# Altium schematic symbol library SamacSys.SchLib: 218 symbols (part 3 of 3)
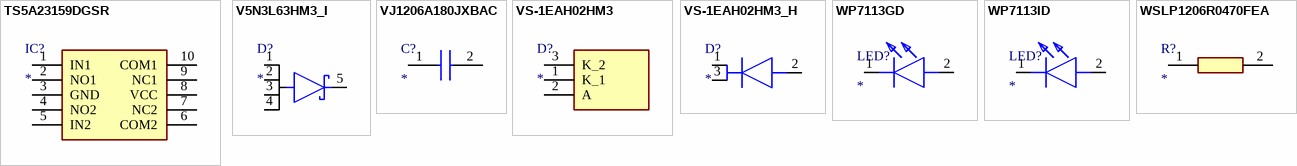
[diagram p8: symbols TS5A23159DGSR to WSLP1206R0470FEA]

## WP7113ID
designator LED?
LED; Manufacturer_Name: Kingbright; Manufacturer_Part_Number: WP7113ID; Datasheet Link: https://www.kingbrightusa.com/images/catalog/SPEC/WP7113ID.pdf; Height: 9.85mm; Mouser Part Number: 604-WP7113ID; Mouser Price/Stock: https://www.mouser.co.uk/ProductDetail/Kingbright/WP7113ID?qs=hyavMCx%252BcmDJhCThgY7pfQ%3D%3D; Arrow Part Number: WP7113ID; Arrow Price/Stock: https://www.arrow.com/en/products/wp7113id/kingbright
footprint WP7113ID
pins: 1 K, 2 A

## WSLP1206R0470FEA
designator R?
Resistor; Manufacturer_Name: Vishay; Manufacturer_Part_Number: WSLP1206R0470FEA; Datasheet Link: https://www.vishay.com/docs/31057/wslhigh.pdf; Height: 0.889mm; Mouser Part Number: 71-WSLP1206R0470FEA; Mouser Price/Stock: https://www.mouser.co.uk/ProductDetail/Vishay-Dale/WSLP1206R0470FEA?qs=eFWhpKjIuGh2y3g3p2QuJQ%3D%3D
footprint RESC3216X89N
pins: 1, 2